# Altium footprint library IDC.PcbLib: 23 footprints (part 2 of 2)
Each footprint in its own frame and in the unit in brackets; x right, y up, seen from the top. Pads: shape width x height; smd on the part's side, far side on the other; paste and mask are expansions set on the pad; w line width, h text height; cw(c..) or ccw(c..) is an arc to the next point about the centre after c.
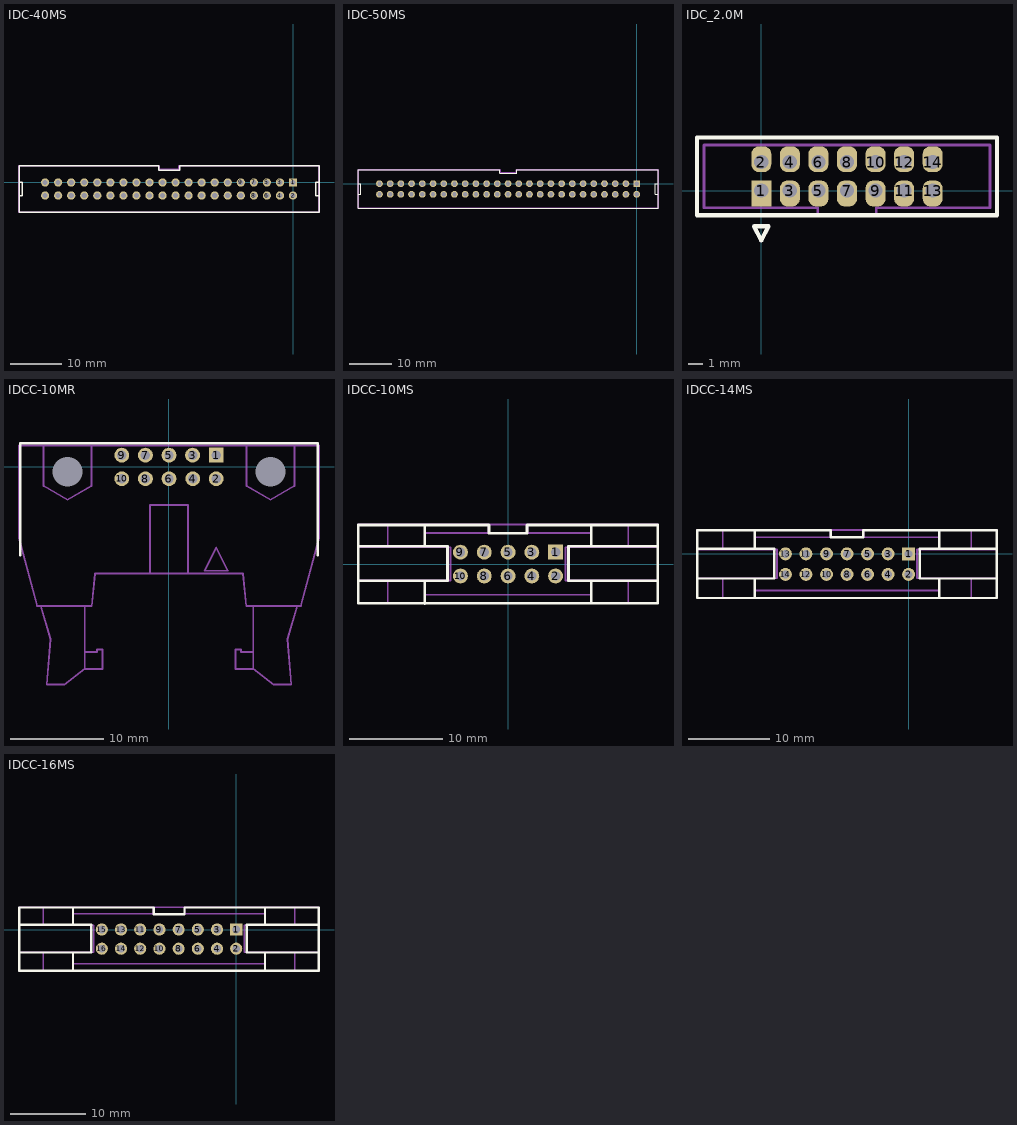
[diagram p1: the footprints below, top view; thin cyan lines are the x and y axes]

## IDC-40MS [mm]
height 9.1
pads (40):
  rect 1.6x1.6 hole 1: 1(0,0)
  round 1.6 hole 1: 2(0,-2.54) 3(-2.54,0) 4(-2.54,-2.54) 5(-5.08,0) 6(-5.08,-2.54) 7(-7.62,0) 8(-7.62,-2.54) 9(-10.16,0) 10(-10.16,-2.54) 11(-12.7,0) 12(-12.7,-2.54) 13(-15.24,0) 14(-15.24,-2.54) 15(-17.78,0) 16(-17.78,-2.54) 17(-20.32,0) 18(-20.32,-2.54) 19(-22.86,0) 20(-22.86,-2.54) 21(-25.4,0) 22(-25.4,-2.54) 23(-27.94,0) 24(-27.94,-2.54) 25(-30.48,0) 26(-30.48,-2.54) 27(-33.02,0) 28(-33.02,-2.54) 29(-35.56,0) 30(-35.56,-2.54) 31(-38.1,0) 32(-38.1,-2.54) 33(-40.64,0) 34(-40.64,-2.54) 35(-43.18,0) 36(-43.18,-2.54) 37(-45.72,0) 38(-45.72,-2.54) 39(-48.26,0) 40(-48.26,-2.54)
Top Overlay:
  lines w0.25: -26.162,3.28 -53.34,3.28 -53.34,-5.82 5.06,-5.82 5.06,3.28 -22.078,3.28 -22.078,2.413 -26.142,2.413 -26.142,3.28
  lines w0.254: -53.34,-2.54 -52.705,-2.54 -52.705,0 -53.34,0 ; 5.06,-2.54 4.425,-2.54 4.425,0 5.06,0
Mechanical 1:
  lines w0.1: -15.875,-2.54 -14.605,-2.54 ; -15.875,0 -14.605,0 ; -15.24,-3.175 -15.24,-1.905 ; -15.24,-0.635 -15.24,0.635 ; -13.335,-2.54 -12.065,-2.54 ; -13.335,0 -12.065,0 ; -12.7,-3.175 -12.7,-1.905 ; -12.7,-0.635 -12.7,0.635 ; -10.795,-2.54 -9.525,-2.54 ; -10.795,0 -9.525,0 ; -10.16,-3.175 -10.16,-1.905 ; -10.16,-0.635 -10.16,0.635 ; -8.255,-2.54 -6.985,-2.54 ; -8.255,0 -6.985,0 ; -7.62,-3.175 -7.62,-1.905 ; -7.62,-0.635 -7.62,0.635 ; -5.715,-2.54 -4.445,-2.54 ; -5.715,0 -4.445,0 ; -5.08,-3.175 -5.08,-1.905 ; -5.08,-0.635 -5.08,0.635 ; -3.175,-2.54 -1.905,-2.54 ; -3.175,0 -1.905,0 ; -2.54,-3.175 -2.54,-1.905 ; -2.54,-0.635 -2.54,0.635 ; -0.635,-2.54 0.635,-2.54 ; -0.635,0 0.635,0 ; 0,-3.175 0,-1.905 ; 0,-0.635 0,0.635
  lines w0.3: -53.34,-5.82 5.06,-5.82 5.06,3.28 -22.205,3.28 -22.205,2.54 -26.015,2.54 -26.015,3.28 -53.34,3.28 -53.34,-5.82
  text ".Designator" at -26.035,-1.524 h1.5
  text "1" at 1.477,-0.357 h1.5
  text "39" at -50.989,-0.357 h1.5
  text "2" at 1.477,-2.897 h1.5
  text "40" at -50.989,-2.897 h1.5
3D body: height 9.1, standoff -3, extent -53.43,-6.02 5.17,3.28

## IDC-50MS [mm]
height 9.1
pads (50):
  rect 1.6x1.6 hole 1: 1(0,0)
  round 1.6 hole 1: 2(0,-2.54) 3(-2.54,0) 4(-2.54,-2.54) 5(-5.08,0) 6(-5.08,-2.54) 7(-7.62,0) 8(-7.62,-2.54) 9(-10.16,0) 10(-10.16,-2.54) 11(-12.7,0) 12(-12.7,-2.54) 13(-15.24,0) 14(-15.24,-2.54) 15(-17.78,0) 16(-17.78,-2.54) 17(-20.32,0) 18(-20.32,-2.54) 19(-22.86,0) 20(-22.86,-2.54) 21(-25.4,0) 22(-25.4,-2.54) 23(-27.94,0) 24(-27.94,-2.54) 25(-30.48,0) 26(-30.48,-2.54) 27(-33.02,0) 28(-33.02,-2.54) 29(-35.56,0) 30(-35.56,-2.54) 31(-38.1,0) 32(-38.1,-2.54) 33(-40.64,0) 34(-40.64,-2.54) 35(-43.18,0) 36(-43.18,-2.54) 37(-45.72,0) 38(-45.72,-2.54) 39(-48.26,0) 40(-48.26,-2.54) 41(-50.8,0) 42(-50.8,-2.54) 43(-53.34,0) 44(-53.34,-2.54) 45(-55.88,0) 46(-55.88,-2.54) 47(-58.42,0) 48(-58.42,-2.54) 49(-60.96,0) 50(-60.96,-2.54)
Top Overlay:
  lines w0.25: -32.512,3.28 -66.04,3.28 -66.04,-5.82 5.06,-5.82 5.06,3.28 -28.428,3.28 -28.428,2.413 -32.492,2.413 -32.492,3.28
  lines w0.254: -66.04,-2.54 -65.405,-2.54 -65.405,0 -66.04,0 ; 5.06,-2.54 4.425,-2.54 4.425,0 5.06,0
Mechanical 1:
  lines w0.1: -15.875,-2.54 -14.605,-2.54 ; -15.875,0 -14.605,0 ; -15.24,-3.175 -15.24,-1.905 ; -15.24,-0.635 -15.24,0.635 ; -13.335,-2.54 -12.065,-2.54 ; -13.335,0 -12.065,0 ; -12.7,-3.175 -12.7,-1.905 ; -12.7,-0.635 -12.7,0.635 ; -10.795,-2.54 -9.525,-2.54 ; -10.795,0 -9.525,0 ; -10.16,-3.175 -10.16,-1.905 ; -10.16,-0.635 -10.16,0.635 ; -8.255,-2.54 -6.985,-2.54 ; -8.255,0 -6.985,0 ; -7.62,-3.175 -7.62,-1.905 ; -7.62,-0.635 -7.62,0.635 ; -5.715,-2.54 -4.445,-2.54 ; -5.715,0 -4.445,0 ; -5.08,-3.175 -5.08,-1.905 ; -5.08,-0.635 -5.08,0.635 ; -3.175,-2.54 -1.905,-2.54 ; -3.175,0 -1.905,0 ; -2.54,-3.175 -2.54,-1.905 ; -2.54,-0.635 -2.54,0.635 ; -0.635,-2.54 0.635,-2.54 ; -0.635,0 0.635,0 ; 0,-3.175 0,-1.905 ; 0,-0.635 0,0.635
  lines w0.3: -66.04,-5.82 -66.04,3.28 -32.365,3.28 -32.365,2.54 -28.555,2.54 -28.555,3.28 5.06,3.28 5.06,-5.82 -66.04,-5.82
  text "50" at -63.689,-2.897 h1.5
  text "2" at 1.477,-2.897 h1.5
  text "49" at -63.689,-0.357 h1.5
  text "1" at 1.477,-0.357 h1.5
  text ".Designator" at -32.385,-1.524 h1.5
3D body: height 9.1, standoff -3, extent -66.13,-6.02 5.17,3.28

## IDC_2.0M [mm]
height 5.65
pads (14):
  rect 1.4x1.8 hole 1 copper offset 0,-0.2: 1(0,0)
  rrect75% 1.4x1.8 hole 1 copper offset 0,0.2: 2(0,2) 4(2,2) 6(4,2) 8(6,2) 10(8,2) 12(10,2) 14(12,2)
  rrect75% 1.4x1.8 hole 1 copper offset 0,-0.2: 3(2,0) 5(4,0) 7(6,0) 9(8,0) 11(10,0) 13(12,0)
Top Overlay:
  lines w0.3: -4.5,-1.725 -4.5,3.725 16.5,3.725 16.5,-1.725 -4.5,-1.725 ; -0.5,-2.5 0,-3.5 0.5,-2.5 -0.5,-2.5
Mechanical 1:
  lines w0.2: 3.95,-1.725 3.95,-1.2 -4,-1.2 ; 8.05,-1.725 8.05,-1.2 16,-1.2 16,3.2 -4,3.2 -4,-1.2 ; -4,-1.2 -4,-1.2 ; -4.5,-1.725 -4.5,3.725 16.5,3.725 16.5,-1.725 -4.5,-1.725
  text ".Comment" at 2.15,-3.775 h1.5
  text ".Designator" at 2.1,4.775 h1.5
  text "1" at -0.25,-3.75 h1.5
  text "2" at -0.7,4.225 h1.5
  text "13" at 11.425,-3.775 h1.5
  text "14" at 11.325,4.225 h1.5

## IDCC-10MR [mm]
height 8.6
pads (12):
  round 0 hole 3.2 unplated mask+3: 0(-10.92,-0.53) 0(10.92,-0.53)
  rect 1.6x1.6 hole 1: 1(5.08,1.27)
  round 1.6 hole 1: 2(5.08,-1.27) 3(2.54,1.27) 4(2.56,-1.27) 5(0,1.27) 6(0,-1.27) 7(-2.54,1.27) 8(-2.54,-1.27) 9(-5.08,1.27) 10(-5.08,-1.27)
Top Overlay:
  lines w0.25: -16.002,-9.525 -16.002,2.54 16,2.54 16,-9.525
Mechanical 1:
  circle w0.2: c10.92,-0.53 r1.3
  circle w0.2: c-10.92,-0.53 r1.3
  lines w0.2: -13.81,-14.976 -12.76,-18.526 -13.16,-23.426 -11.285,-23.426 -9.06,-21.726 ; -9.06,-19.926 -7.76,-19.926 -7.76,-19.626 -7.16,-19.626 -7.16,-21.726 -9.06,-21.726 ; -9.06,-14.976 -9.06,-21.726 ; -8.4,2.324 8.32,2.324 ; -2.05,-11.476 -2.05,-4.076 2.05,-4.076 2.05,-11.476 ; 9.06,-19.926 7.76,-19.926 7.76,-19.626 7.16,-19.626 7.16,-21.726 9.06,-21.726 ; 9.06,-14.976 9.06,-21.726 ; 13.81,-14.976 12.76,-18.526 13.16,-23.426 11.285,-23.426 9.06,-21.726 ; -13.52,2.324 -8.32,2.324 -8.32,-2.031 -10.92,-3.532 -13.52,-2.031 -13.52,2.324 ; -13.52,2.324 -16.14,2.324 -16.14,-7.676 -14.184,-14.976 -8.314,-14.976 -7.951,-11.476 7.951,-11.476 8.314,-14.976 14.184,-14.976 16.14,-7.676 16.14,2.324 13.52,2.324 ; 8.32,2.324 13.52,2.324 ; 8.32,2.324 8.32,-2.031 10.92,-3.532 13.52,-2.031 13.52,2.324 ; 3.83,-11.176 5.08,-8.676 6.33,-11.176 3.83,-11.176
  text "10" at -5.523,-1.373 h1.5
  text "2" at 4.953,-1.27 h1.5
  text "9" at -5.523,1.167 h1.5
  text "1" at 5.16,1.167 h1.5
  text ".Designator" at -1,-0.4 h1.5
3D body: height 8.38, standoff -2.79, extent -16.027,-24.615 16.027,2.286

## IDCC-10MS [mm]
height 26.9
pads (10):
  rect 1.6x1.6 hole 1: 1(5.08,1.27)
  round 1.6 hole 1: 2(5.08,-1.27) 3(2.54,1.27) 4(2.54,-1.27) 5(0,1.27) 6(0,-1.27) 7(-2.54,1.27) 8(-2.54,-1.27) 9(-5.08,1.27) 10(-5.08,-1.27)
Top Overlay:
  lines w0.3: -16.002,-1.783 -6.477,-1.783 ; -16.002,1.9 -6.477,1.9 ; -8.89,-4.196 -8.89,-1.783 ; -8.89,1.9 -8.89,4.186 ; -6.457,-1.778 -6.457,1.905 ; 8.89,-4.191 8.89,-1.778 ; 8.89,1.905 8.89,4.191 ; 16.002,-1.778 6.477,-1.778 6.477,1.905 16.002,1.905 ; -16.002,-4.191 -16.002,4.191 -2.032,4.191 -2.032,3.302 2.032,3.302 2.032,4.191 16.002,4.191 16.002,-4.191 -16.002,-4.191
Mechanical 1:
  lines w0.1: -5.715,-1.27 -4.445,-1.27 ; -5.715,1.27 -4.445,1.27 ; -5.08,-1.905 -5.08,-0.635 ; -5.08,0.635 -5.08,1.905 ; -3.175,-1.27 -1.905,-1.27 ; -3.175,1.27 -1.905,1.27 ; -2.54,-1.905 -2.54,-0.635 ; -2.54,0.635 -2.54,1.905 ; -0.635,-1.27 0.635,-1.27 ; -0.635,1.27 0.635,1.27 ; 0,-1.905 0,-0.635 ; 0,0.635 0,1.905 ; 1.905,-1.27 3.175,-1.27 ; 1.905,1.27 3.175,1.27 ; 2.54,-1.905 2.54,-0.635 ; 2.54,0.635 2.54,1.905 ; 4.445,-1.27 5.715,-1.27 ; 4.445,1.27 5.715,1.27 ; 5.08,-1.905 5.08,-0.635 ; 5.08,0.635 5.08,1.905
  lines w0.2: -16.031,-4.161 -16.031,-1.748 ; -16.031,4.221 -16.031,1.808 ; -16.002,-4.161 12.849,-4.161 ; -16.002,4.221 -4.639,4.221 -0.448,4.221 12.849,4.221 ; -12.856,-4.161 -12.856,-1.748 ; -12.856,4.221 -12.856,1.808 ; -8.893,-3.272 -8.893,-1.748 ; -8.893,1.808 -8.893,3.332 ; -8.89,-3.272 8.76,-3.272 ; -8.89,3.332 -4.639,3.332 -0.448,3.332 8.887,3.332 8.887,1.808 ; -2.099,3.332 -2.099,4.221 ; 2.092,3.332 2.092,4.221 ; 8.887,-3.272 8.887,-1.748 ; -16.031,-1.748 -16.031,1.808 ; -16.031,-1.748 -12.856,-1.748 ; -16.031,1.808 -12.856,1.808 ; -12.856,-1.748 -12.221,-1.748 -8.769,-1.748 -8.515,-1.748 -6.13,-1.748 -6.13,1.808 -8.515,1.808 -8.769,1.808 -12.221,1.808 -12.856,1.808 ; 12.849,-4.161 16.024,-4.161 16.024,-1.748 ; 12.849,-4.161 12.849,-1.748 ; 12.849,-1.748 16.024,-1.748 ; 12.849,-1.748 12.214,-1.748 8.763,-1.748 8.509,-1.748 6.123,-1.748 6.123,1.808 8.509,1.808 8.763,1.808 12.214,1.808 12.849,1.808 ; 12.849,1.808 16.024,1.808 ; 12.849,1.808 12.849,4.221 ; 12.849,4.221 16.024,4.221 16.024,1.808 ; 16.024,-1.748 16.024,1.808
  text ".Comment" at -3.175,-6.096 h1.5
  text "10" at -6.604,-2.921 h1.5
  text "2" at 6.223,-2.921 h1.5
  text "9" at -6.477,2.159 h1.5
  text "1" at 6.35,2.159 h1.5
  text ".Designator" at -4.445,5.334 h1.5
3D body: height 26.9, standoff -2.74, extent -16.129,-4.191 15.926,4.191

## IDCC-14MS [mm]
height 26.9
pads (14):
  rect 1.6x1.6 hole 1: 1(0,0)
  round 1.6 hole 1: 2(0,-2.54) 3(-2.54,0) 4(-2.54,-2.54) 5(-5.08,0) 6(-5.08,-2.54) 7(-7.62,0) 8(-7.62,-2.54) 9(-10.16,0) 10(-10.16,-2.54) 11(-12.7,0) 12(-12.7,-2.54) 13(-15.24,0) 14(-15.24,-2.54)
Top Overlay:
  lines w0.3: -26.162,-3.048 -16.637,-3.048 -16.637,0.635 -26.162,0.635 ; -19.05,-5.461 -19.05,-3.048 ; -19.05,0.635 -19.05,2.921 ; 3.81,-5.461 3.81,-3.048 ; 3.81,0.635 3.81,2.921 ; 10.922,-3.048 1.397,-3.048 1.397,0.635 10.922,0.635 ; -26.162,-5.461 10.922,-5.461 10.922,2.921 -5.588,2.921 -5.588,2.032 -9.652,2.032 -9.652,2.921 -26.162,2.921 -26.162,-5.461
Mechanical 1:
  lines w0.1: -15.875,-2.54 -14.605,-2.54 ; -15.875,0 -14.605,0 ; -15.24,-3.175 -15.24,-1.905 ; -15.24,-0.635 -15.24,0.635 ; -13.335,-2.54 -12.065,-2.54 ; -13.335,0 -12.065,0 ; -12.7,-3.175 -12.7,-1.905 ; -12.7,-0.635 -12.7,0.635 ; -10.795,-2.54 -9.525,-2.54 ; -10.795,0 -9.525,0 ; -10.16,-3.175 -10.16,-1.905 ; -10.16,-0.635 -10.16,0.635 ; -8.255,-2.54 -6.985,-2.54 ; -8.255,0 -6.985,0 ; -7.62,-3.175 -7.62,-1.905 ; -7.62,-0.635 -7.62,0.635 ; -5.715,-2.54 -4.445,-2.54 ; -5.715,0 -4.445,0 ; -5.08,-3.175 -5.08,-1.905 ; -5.08,-0.635 -5.08,0.635 ; -3.175,-2.54 -1.905,-2.54 ; -3.175,0 -1.905,0 ; -2.54,-3.175 -2.54,-1.905 ; -2.54,-0.635 -2.54,0.635 ; -0.635,-2.54 0.635,-2.54 ; -0.635,0 0.635,0 ; 0,-3.175 0,-1.905 ; 0,-0.635 0,0.635
  lines w0.2: -19.053,-3.018 -19.053,-4.542 3.807,-4.542 3.807,-3.018 ; -19.053,0.538 -19.053,2.062 -9.719,2.062 ; 3.807,0.538 3.807,2.062 -5.528,2.062 ; -26.191,-3.018 -26.191,-5.431 -23.016,-5.431 ; -26.191,-3.018 -23.016,-3.018 ; -26.191,-3.018 -26.191,0.538 ; -26.191,0.538 -23.016,0.538 ; -26.191,0.538 -26.191,2.951 -23.016,2.951 ; -23.016,-5.431 7.769,-5.431 ; -23.016,-5.431 -23.016,-3.018 ; -23.016,-3.018 -22.381,-3.018 -18.929,-3.018 -18.675,-3.018 -16.29,-3.018 -16.29,0.538 -18.675,0.538 -18.929,0.538 -22.381,0.538 -23.016,0.538 ; -23.016,0.538 -23.016,2.951 ; -23.016,2.951 -9.719,2.951 ; -9.719,2.062 -9.719,2.951 ; -9.719,2.062 -5.528,2.062 ; -9.719,2.951 -5.528,2.951 ; -5.528,2.062 -5.528,2.951 ; -5.528,2.951 7.769,2.951 ; 7.769,-5.431 7.769,-3.018 ; 7.769,-5.431 10.944,-5.431 10.944,-3.018 ; 7.769,-3.018 7.134,-3.018 3.683,-3.018 3.429,-3.018 1.043,-3.018 1.043,0.538 3.429,0.538 3.683,0.538 7.134,0.538 7.769,0.538 ; 7.769,-3.018 10.944,-3.018 ; 7.769,0.538 7.769,2.951 ; 7.769,0.538 10.944,0.538 ; 7.769,2.951 10.944,2.951 10.944,0.538 ; 10.944,-3.018 10.944,0.538
  text ".Designator" at -9.525,4.064 h1.5
  text "1" at 1.27,0.889 h1.5
  text "13" at -16.637,0.889 h1.5
  text "2" at 1.143,-4.191 h1.5
  text "14" at -16.764,-4.191 h1.5
3D body: height 26.9, standoff -2.74, extent -26.213,-5.461 10.922,2.921

## IDCC-16MS [mm]
height 26.9
pads (16):
  rect 1.6x1.6 hole 1: 1(0,0)
  round 1.6 hole 1: 2(0,-2.54) 3(-2.54,0) 4(-2.54,-2.54) 5(-5.08,0) 6(-5.08,-2.54) 7(-7.62,0) 8(-7.62,-2.54) 9(-10.16,0) 10(-10.16,-2.54) 11(-12.7,0) 12(-12.7,-2.54) 13(-15.24,0) 14(-15.24,-2.54) 15(-17.78,0) 16(-17.78,-2.54)
Top Overlay:
  lines w0.3: -28.702,-3.048 -19.177,-3.048 -19.177,0.635 -28.702,0.635 ; -21.59,-5.461 -21.59,-3.048 ; -21.59,0.635 -21.59,2.921 ; 3.81,-5.461 3.81,-3.048 ; 3.81,0.635 3.81,2.921 ; 10.922,-3.048 1.397,-3.048 1.397,0.635 10.922,0.635 ; -28.702,-5.461 -28.702,2.921 -10.922,2.921 -10.922,2.032 -6.858,2.032 -6.858,2.921 10.922,2.921 10.922,-5.461 -28.702,-5.461
Mechanical 1:
  lines w0.1: -18.415,-2.54 -17.145,-2.54 ; -18.415,0 -17.145,0 ; -17.78,-3.175 -17.78,-1.905 ; -17.78,-0.635 -17.78,0.635 ; -15.875,0 -14.605,0 ; -15.24,-0.635 -15.24,0.635 ; -13.335,-2.54 -12.065,-2.54 ; -13.335,0 -12.065,0 ; -12.7,-3.175 -12.7,-1.905 ; -12.7,-0.635 -12.7,0.635 ; -10.795,-2.54 -9.525,-2.54 ; -10.795,0 -9.525,0 ; -10.16,-3.175 -10.16,-1.905 ; -10.16,-0.635 -10.16,0.635 ; -8.255,-2.54 -6.985,-2.54 ; -8.255,0 -6.985,0 ; -7.62,-3.175 -7.62,-1.905 ; -7.62,-0.635 -7.62,0.635 ; -5.715,-2.54 -4.445,-2.54 ; -5.715,0 -4.445,0 ; -5.08,-3.175 -5.08,-1.905 ; -5.08,-0.635 -5.08,0.635 ; -3.175,-2.54 -1.905,-2.54 ; -3.175,0 -1.905,0 ; -2.54,-3.175 -2.54,-1.905 ; -2.54,-0.635 -2.54,0.635 ; -0.635,-2.54 0.635,-2.54 ; -0.635,0 0.635,0 ; 0,-3.175 0,-1.905 ; 0,-0.635 0,0.635 ; -15.875,-2.54 -14.605,-2.54 -15.875,-2.54 ; -15.24,-3.175 -15.24,-1.905 -15.24,-3.175
  lines w0.2: -25.654,2.951 -9.719,2.951 ; -21.593,-3.018 -21.593,-4.542 3.807,-4.542 3.807,-3.018 ; -21.593,0.538 -21.593,2.062 -9.719,2.062 ; 3.807,0.538 3.807,2.062 -6.798,2.062 ; -28.731,-3.018 -28.731,0.538 ; -28.731,-3.018 -25.556,-3.018 ; -28.731,-3.018 -28.731,-5.431 -25.556,-5.431 ; -28.731,0.538 -28.731,2.951 -25.556,2.951 -25.556,0.538 ; -28.731,0.538 -25.556,0.538 ; -25.556,-5.431 -25.556,-3.018 ; -25.556,-5.431 7.769,-5.431 ; -25.556,-3.018 -24.921,-3.018 -21.469,-3.018 -21.215,-3.018 -18.83,-3.018 -18.83,0.538 -21.215,0.538 -21.469,0.538 -24.921,0.538 -25.556,0.538 ; -6.798,2.062 -10.989,2.062 -10.989,2.951 -6.798,2.951 ; -6.798,2.062 -6.798,2.951 ; -6.798,2.951 7.769,2.951 ; 7.769,-5.431 10.944,-5.431 10.944,-3.018 ; 7.769,-5.431 7.769,-3.018 ; 7.769,-3.018 10.944,-3.018 ; 7.769,-3.018 7.134,-3.018 3.683,-3.018 3.429,-3.018 1.043,-3.018 1.043,0.538 3.429,0.538 3.683,0.538 7.134,0.538 7.769,0.538 ; 7.769,0.538 10.944,0.538 ; 7.769,0.538 7.769,2.951 ; 7.769,2.951 10.944,2.951 10.944,0.538 ; 10.944,-3.018 10.944,0.538
  text "16" at -19.304,-4.191 h1.5
  text "2" at 1.143,-4.191 h1.5
  text "15" at -19.177,0.889 h1.5
  text "1" at 1.27,0.889 h1.5
  text ".Designator" at -10.795,4.064 h1.5
3D body: height 26.9, standoff -2.74, extent -28.731,-5.431 10.944,2.951